# Altium footprint library Pin Header 1x1 TH Pitch 2.54mm.PcbLib: 1 footprints
Each footprint in its own frame and in the unit in brackets; x right, y up, seen from the top. Pads: shape width x height; smd on the part's side, far side on the other; paste and mask are expansions set on the pad; w line width, h text height; cw(c..) or ccw(c..) is an arc to the next point about the centre after c.
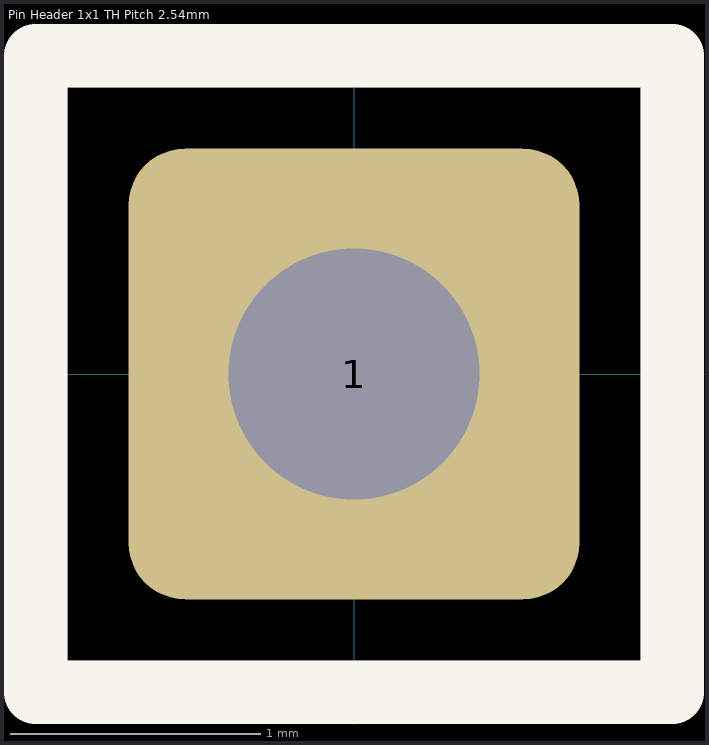
[diagram p0: the footprint, top view; thin cyan lines are the x and y axes]

## Pin Header 1x1 TH Pitch 2.54mm [mm] "PinHeader 1x1 TH Pitch 2.54mm"
height 9.5
pads (1):
  rrect25% 1.8x1.8 hole 1: 1(0,0)
Top Overlay:
  lines w0.254: -1.27,1.27 1.27,1.27 ; -1.27,1.27 -1.27,-1.27 1.27,-1.27 1.27,1.27 ; -1.27,1.27 1.27,1.27
Mechanical 3:
  lines w0.254: -1.27,1.27 1.27,1.27 ; -1.27,1.27 -1.27,-1.27 1.27,-1.27 1.27,1.27 ; -1.27,1.27 1.27,1.27
3D body "Pin Header 1x1 TH Pitch 2.54mm.stp": height 9.5, standoff -3.2, extent -1.27,-1.27 1.27,1.27